# Altium footprint library 封装库.PCBLIB: 282 footprints (part 17 of 18)
Each footprint in its own frame and in the unit in brackets; x right, y up, seen from the top. Pads: shape width x height; smd on the part's side, far side on the other; paste and mask are expansions set on the pad; w line width, h text height; cw(c..) or ccw(c..) is an arc to the next point about the centre after c.
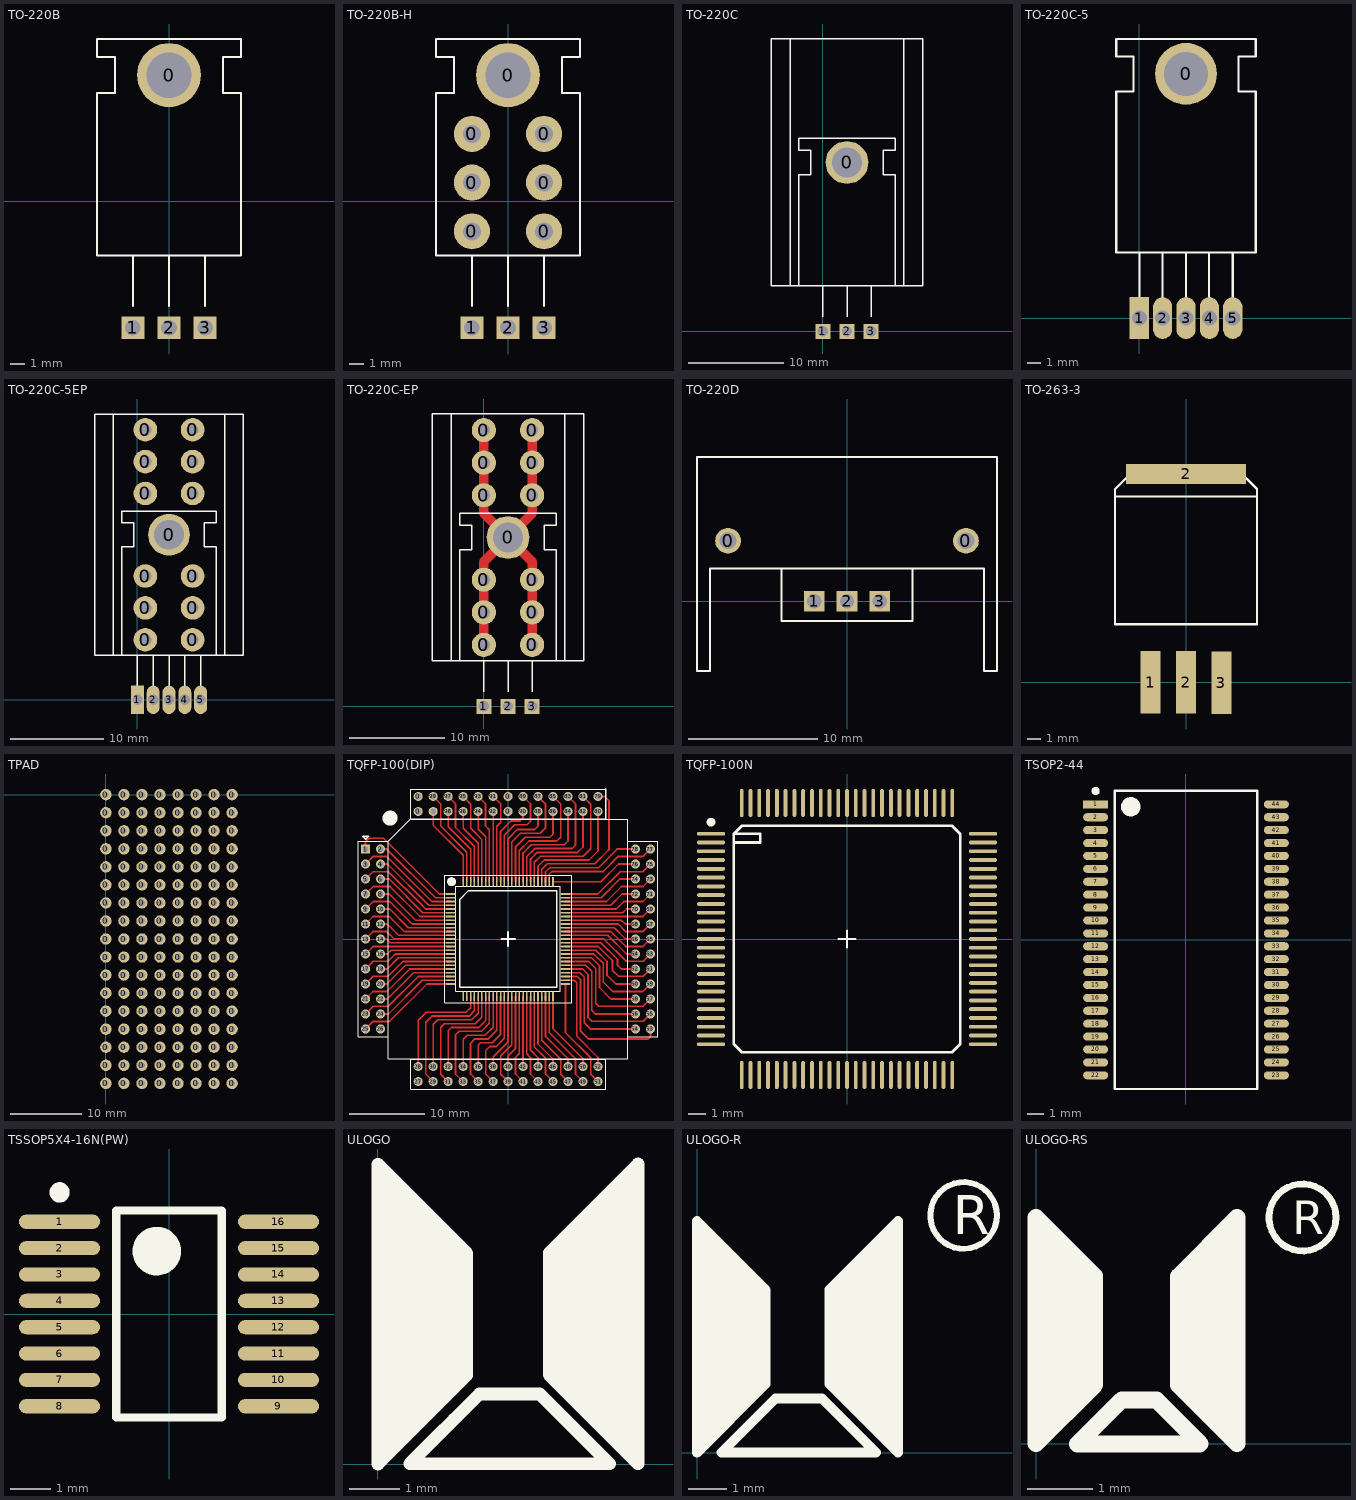
[diagram p16: the footprints below, top view; thin cyan lines are the x and y axes]

## TO-220B [mm]
pads (4):
  round 4.5 hole 3.2: 0(0,8.89)
  rect 1.6x1.6 hole 1.1: 1(-2.54,-8.89) 2(0,-8.89) 3(2.54,-8.89)
TopOverlay:
  lines w0.152: -2.54,-7.366 -2.54,-3.81 ; 0,-7.366 0,-3.81 ; 2.54,-7.366 2.54,-3.81 ; -5.08,-3.81 5.08,-3.81 5.08,7.62 3.81,7.62 3.81,10.16 5.08,10.16 5.08,11.43 -5.08,11.43 -5.08,10.16 -3.81,10.16 -3.81,7.62 -5.08,7.62 -5.08,-3.81

## TO-220B-H [mm]
pads (10):
  round 2.54 hole 1.27: 0(-2.54,-2.108) 0(-2.54,1.321) 0(-2.54,4.75) 0(2.54,-2.108) 0(2.54,1.321) 0(2.54,4.75)
  round 4.5 hole 3.2: 0(0,8.89)
  rect 1.6x1.6 hole 1.1: 1(-2.54,-8.89) 2(0,-8.89) 3(2.54,-8.89)
TopOverlay:
  lines w0.152: -5.08,-3.805 5.08,-3.805 ; -2.54,-7.366 -2.54,-3.81 ; 0,-7.366 0,-3.81 ; 2.54,-7.366 2.54,-3.81 ; -5.08,-3.81 -5.08,7.62 -3.81,7.62 -3.81,10.16 -5.08,10.16 -5.08,11.43 5.08,11.43 5.08,10.16 3.81,10.16 3.81,7.62 5.08,7.62 5.08,-3.81 -5.08,-3.81
  lines w0.254: -0.305,8.89 0,8.89

## TO-220C [mm] "Heat sink"
pads (4):
  round 4.5 hole 3.2: 0(2.54,17.78)
  rect 1.6x1.6 hole 1.1: 1(0,0) 2(2.54,0) 3(5.08,0)
TopOverlay:
  lines w0.152: -3.46,30.78 -3.46,4.78 ; 0,1.524 0,4.78 ; 2.54,1.524 2.54,4.78 ; 5.08,1.524 5.08,4.78 ; 8.54,30.78 8.54,4.78 ; -3.46,4.78 -5.46,4.78 -5.46,30.78 2.54,30.78 10.54,30.78 10.54,4.78 8.54,4.78 ; -3.46,4.78 -2.54,4.78 ; -2.54,4.78 -2.54,16.51 -1.27,16.51 -1.27,19.05 -2.54,19.05 -2.54,20.32 7.62,20.32 7.62,19.05 6.35,19.05 6.35,16.51 7.62,16.51 7.62,4.78 ; -2.54,4.78 7.62,4.78 ; 7.62,4.78 8.54,4.78

## TO-220C-5 [mm] "ADJ,Heat sink"
pads (6):
  round 4.5 hole 3.2: 0(3.4,17.78)
  rect 1.397x3.048 hole 1.1: 1(0,0)
  oval 1.397x3.048 hole 1.1: 2(1.7,0) 3(3.4,0) 4(5.1,0) 5(6.804,0)
TopOverlay:
  lines w0.152: 0,1.524 0,4.78 ; 1.702,1.524 1.702,4.78 ; 3.4,1.524 3.4,4.78 ; 5.08,1.524 5.08,4.78 ; 6.807,1.524 6.807,4.78 ; -1.68,4.78 8.48,4.78 8.48,16.51 7.21,16.51 7.21,19.05 8.48,19.05 8.48,20.32 -1.68,20.32 -1.68,19.05 -0.41,19.05 -0.41,16.51 -1.68,16.51 -1.68,4.78

## TO-220C-5EP [mm] "ADJ,Heat sink"
pads (18):
  round 2.54 hole 1.27: 0(0.86,6.477) 0(0.86,9.906) 0(0.86,13.335) 0(0.86,22.225) 0(0.86,25.654) 0(0.86,29.083) 0(5.94,6.477) 0(5.94,9.906) 0(5.94,13.335) 0(5.94,22.225) 0(5.94,25.654) 0(5.94,29.083)
  round 4.5 hole 3.2: 0(3.4,17.78)
  rect 1.397x3.048 hole 1.1: 1(0,0)
  oval 1.397x3.048 hole 1.1: 2(1.7,0) 3(3.4,0) 4(5.1,0) 5(6.804,0)
TopOverlay:
  lines w0.152: -2.6,30.78 -2.6,4.78 ; 0,1.524 0,4.78 ; 1.702,1.524 1.702,4.78 ; 3.4,1.524 3.4,4.78 ; 5.08,1.524 5.08,4.78 ; 6.807,1.524 6.807,4.78 ; 9.4,30.78 9.4,4.78 ; -2.6,4.78 -1.68,4.78 ; -2.6,4.78 -4.6,4.78 -4.6,30.78 3.4,30.78 11.4,30.78 11.4,4.78 9.4,4.78 ; -1.68,4.78 8.48,4.78 ; -1.68,4.78 -1.68,16.51 -0.41,16.51 ; -0.41,16.51 -0.41,19.05 ; -0.41,16.51 -0.41,19.05 ; -0.41,19.05 -1.68,19.05 -1.68,20.32 8.48,20.32 8.48,19.05 7.21,19.05 ; 7.21,16.51 7.21,19.05 ; 7.21,16.51 7.21,19.05 ; 7.21,16.51 8.48,16.51 8.48,4.78 ; 8.48,4.78 9.4,4.78
  lines w0.254: 3.4,15.875 3.4,17.78

## TO-220C-EP [mm] "Heat sink"
pads (16):
  round 2.54 hole 1.27: 0(0,6.477) 0(0,9.906) 0(0,13.335) 0(0,22.225) 0(0,25.654) 0(0,29.083) 0(5.08,6.477) 0(5.08,9.906) 0(5.08,13.335) 0(5.08,22.225) 0(5.08,25.654) 0(5.08,29.083)
  round 4.5 hole 3.2: 0(2.54,17.78)
  rect 1.6x1.6 hole 1.1: 1(0,0) 2(2.54,0) 3(5.08,0)
TopLayer:
  lines w1.016: 0,6.477 0,13.335 0,15.24 2.54,17.78 ; 0,29.083 0,22.225 0,20.32 2.54,17.78 ; 5.08,6.477 5.08,13.335 5.08,15.24 2.54,17.78 ; 5.08,29.083 5.08,22.225 5.08,20.32 2.54,17.78
TopOverlay:
  lines w0.152: -3.46,30.78 -3.46,4.78 ; 0,1.524 0,4.78 ; 2.54,1.524 2.54,4.78 ; 5.08,1.524 5.08,4.78 ; 8.54,30.78 8.54,4.78 ; -3.46,4.78 -2.54,4.78 ; -3.46,4.78 -5.46,4.78 -5.46,30.78 2.54,30.78 10.54,30.78 10.54,4.78 8.54,4.78 ; -2.54,4.78 7.62,4.78 ; -2.54,4.78 -2.54,16.51 -1.27,16.51 -1.27,19.05 -2.54,19.05 -2.54,20.32 7.62,20.32 7.62,19.05 6.35,19.05 6.35,16.51 7.62,16.51 7.62,4.78 ; 7.62,4.78 8.54,4.78
  lines w0.254: 2.54,15.875 2.54,17.78

## TO-220D [mm]
pads (5):
  round 2 hole 1.3: 0(-9.246,4.699) 0(9.246,4.699)
  rect 1.6x1.6 hole 1.1: 1(-2.54,0) 2(0,0) 3(2.54,0)
TopOverlay:
  lines w0.152: -11.659,-5.055 -11.659,0 ; -11.659,-4.699 -11.659,-5.41 -10.643,-5.41 -10.643,-3.302 -10.643,-1.524 ; -11.659,-0.635 -11.659,11.201 0.025,11.201 ; -10.643,-2.007 -10.643,2.54 -5.08,2.54 ; -5.08,0 -5.08,0.762 -5.08,2.54 ; -5.08,0.254 -5.08,-1.524 -4.572,-1.524 4.572,-1.524 5.08,-1.524 5.08,2.54 ; -2.54,-0.305 -2.54,0.203 ; -0.457,11.201 11.659,11.201 11.659,-1.422 ; 10.643,-3.073 10.643,-1.524 ; 10.643,-2.667 10.643,-3.429 10.643,-5.41 11.659,-5.41 11.659,-3.962 ; 10.643,-1.956 10.643,2.54 5.08,2.54 ; 11.659,-4.547 11.659,0.279 ; -5.08,2.54 5.08,2.54

## TO-263-3 [mm]
pads (4):
  rect 1.42x4.5 smd: 1(-2.54,0.013) 2(0,0.013) 3(2.54,-0.013)
  rect 8.59x1.42 smd: 2(0,14.961)
TopOverlay:
  lines w0.152: -4.287,14.668 -3.271,14.668 ; -2.077,13.329 -5.094,13.329 2.825,13.329 ; -2.001,13.329 5.094,13.329 5.094,13.875 4.3,14.668 4.298,14.668 3.765,14.668 ; 3.758,14.668 -4.293,14.668 -5.1,13.862 -5.1,13.328 -5.1,4.178 5.085,4.178 ; 4.806,4.178 5.085,4.178 ; 5.094,13.652 5.094,4.653 5.094,4.187 5.085,4.178

## TPAD [mm]
pads (136):
  round 1.6 hole 0.8: 0(0,-40.64) 0(0,-38.1) 0(0,-35.56) 0(0,-33.02) 0(0,-30.48) 0(0,-27.94) 0(0,-25.4) 0(0,-22.86) 0(0,-20.32) 0(0,-17.78) 0(0,-15.24) 0(0,-12.7) 0(0,-10.16) 0(0,-7.62) 0(0,-5.08) 0(0,-2.54) 0(0,0) 0(2.54,-40.64) 0(2.54,-38.1) 0(2.54,-35.56) 0(2.54,-33.02) 0(2.54,-30.48) 0(2.54,-27.94) 0(2.54,-25.4) 0(2.54,-22.86) 0(2.54,-20.32) 0(2.54,-17.78) 0(2.54,-15.24) 0(2.54,-12.7) 0(2.54,-10.16) 0(2.54,-7.62) 0(2.54,-5.08) 0(2.54,-2.54) 0(2.54,0) 0(5.08,-40.64) 0(5.08,-38.1) 0(5.08,-35.56) 0(5.08,-33.02) 0(5.08,-30.48) 0(5.08,-27.94) 0(5.08,-25.4) 0(5.08,-22.86) 0(5.08,-20.32) 0(5.08,-17.78) 0(5.08,-15.24) 0(5.08,-12.7) 0(5.08,-10.16) 0(5.08,-7.62) 0(5.08,-5.08) 0(5.08,-2.54) 0(5.08,0) 0(7.62,-40.64) 0(7.62,-38.1) 0(7.62,-35.56) 0(7.62,-33.02) 0(7.62,-30.48) 0(7.62,-27.94) 0(7.62,-25.4) 0(7.62,-22.86) 0(7.62,-20.32) 0(7.62,-17.78) 0(7.62,-15.24) 0(7.62,-12.7) 0(7.62,-10.16) 0(7.62,-7.62) 0(7.62,-5.08) 0(7.62,-2.54) 0(7.62,0) 0(10.16,-40.64) 0(10.16,-38.1) 0(10.16,-35.56) 0(10.16,-33.02) 0(10.16,-30.48) 0(10.16,-27.94) 0(10.16,-25.4) 0(10.16,-22.86) 0(10.16,-20.32) 0(10.16,-17.78) 0(10.16,-15.24) 0(10.16,-12.7) 0(10.16,-10.16) 0(10.16,-7.62) 0(10.16,-5.08) 0(10.16,-2.54) 0(10.16,0) 0(12.7,-40.64) 0(12.7,-38.1) 0(12.7,-35.56) 0(12.7,-33.02) 0(12.7,-30.48) 0(12.7,-27.94) 0(12.7,-25.4) 0(12.7,-22.86) 0(12.7,-20.32) 0(12.7,-17.78) 0(12.7,-15.24) 0(12.7,-12.7) 0(12.7,-10.16) 0(12.7,-7.62) 0(12.7,-5.08) 0(12.7,-2.54) 0(12.7,0) 0(15.24,-40.64) 0(15.24,-38.1) 0(15.24,-35.56) 0(15.24,-33.02) 0(15.24,-30.48) 0(15.24,-27.94) 0(15.24,-25.4) 0(15.24,-22.86) 0(15.24,-20.32) 0(15.24,-17.78) 0(15.24,-15.24) 0(15.24,-12.7) 0(15.24,-10.16) 0(15.24,-7.62) 0(15.24,-5.08) 0(15.24,-2.54) 0(15.24,0) 0(17.78,-40.64) 0(17.78,-38.1) 0(17.78,-35.56) 0(17.78,-33.02) 0(17.78,-30.48) 0(17.78,-27.94) 0(17.78,-25.4) 0(17.78,-22.86) 0(17.78,-20.32) 0(17.78,-17.78) 0(17.78,-15.24) 0(17.78,-12.7) 0(17.78,-10.16) 0(17.78,-7.62) 0(17.78,-5.08) 0(17.78,-2.54) 0(17.78,0)

## TQFP-100(DIP) [mm]
pads (204):
  round 1.2 hole 0.75: 0(-11.987,17.018) 0(-11.987,19.018) 0(0.013,17.018) 0(0.013,19.018) 2(-17.005,12) 3(-19.005,10) 4(-17.005,10) 5(-19.005,8) 6(-17.005,8) 7(-19.005,6) 8(-17.005,6) 9(-19.005,4) 10(-17.005,4) 11(-19.005,2) 12(-17.005,2) 13(-19.005,0) 14(-17.005,0) 15(-19.005,-2) 16(-17.005,-2) 17(-19.005,-4) 18(-17.005,-4) 19(-19.005,-6) 20(-17.005,-6) 21(-19.005,-8) 22(-17.005,-8) 23(-19.005,-10) 24(-17.005,-10) 25(-19.005,-12) 26(-17.005,-12) 27(-11.987,-19.018) 28(-11.987,-17.018) 29(-9.987,-19.018) 30(-9.987,-17.018) 31(-7.987,-19.018) 32(-7.987,-17.018) 33(-5.987,-19.018) 34(-5.987,-17.018) 35(-3.987,-19.018) 36(-3.987,-17.018) 37(-1.987,-19.018) 38(-1.987,-17.018) 39(0.013,-19.018) 40(0.013,-17.018) 41(2.013,-19.018) 42(2.013,-17.018) 43(4.013,-19.018) 44(4.013,-17.018) 45(6.013,-19.018) 46(6.013,-17.018) 47(8.013,-19.018) 48(8.013,-17.018) 49(10.013,-19.018) 50(10.013,-17.018) 51(12.013,-19.018) 52(12.013,-17.018) 53(19.005,-12) 54(17.005,-12) 55(19.005,-10) 56(17.005,-10) 57(19.005,-8) 58(17.005,-8) 59(19.005,-6) 60(17.005,-6) 61(19.005,-4) 62(17.005,-4) 63(19.005,-2) 64(17.005,-2) 65(19.005,0) 66(17.005,0) 67(19.005,2) 68(17.005,2) 69(19.005,4) 70(17.005,4) 71(19.005,6) 72(17.005,6) 73(19.005,8) 74(17.005,8) 75(19.005,10) 76(17.005,10) 77(19.005,12) 78(17.005,12) 79(12.013,19.018) 80(12.013,17.018) 81(10.013,19.018) 82(10.013,17.018) 83(8.013,19.018) 84(8.013,17.018) 85(6.013,19.018) 86(6.013,17.018) 87(4.013,19.018) 88(4.013,17.018) 89(2.013,19.018) 90(2.013,17.018) 91(-1.987,19.018) 92(-1.987,17.018) 93(-3.987,19.018) 94(-3.987,17.018) 95(-5.987,19.018) 96(-5.987,17.018) 97(-7.987,19.018) 98(-7.987,17.018) 99(-9.987,19.018) 100(-9.987,17.018)
  rect 1.2x1.2 hole 0.75: 1(-19.005,12)
  rect 1.3x0.22 smd: 1(-7.637,6)
  oval 1.3x0.22 smd: 2(-7.637,5.5) 3(-7.637,5) 4(-7.637,4.5) 5(-7.637,4) 6(-7.637,3.5) 7(-7.637,3) 8(-7.637,2.5) 9(-7.637,2) 10(-7.637,1.5) 11(-7.637,1) 12(-7.637,0.5) 13(-7.637,0) 14(-7.637,-0.5) 15(-7.637,-1) 16(-7.637,-1.5) 17(-7.637,-2) 18(-7.637,-2.5) 19(-7.637,-3) 20(-7.637,-3.5) 21(-7.637,-4) 22(-7.637,-4.5) 23(-7.637,-5) 24(-7.637,-5.5) 25(-7.637,-6) 51(7.663,-6) 52(7.663,-5.5) 53(7.663,-5) 54(7.663,-4.5) 55(7.663,-4) 56(7.663,-3.5) 57(7.663,-3) 58(7.663,-2.5) 59(7.663,-2) 60(7.663,-1.5) 61(7.663,-1) 62(7.663,-0.5) 63(7.663,0) 64(7.663,0.5) 65(7.663,1) 66(7.663,1.5) 67(7.663,2) 68(7.663,2.5) 69(7.663,3) 70(7.663,3.5) 71(7.663,4) 72(7.663,4.5) 73(7.663,5) 74(7.663,5.5) 75(7.663,6)
  oval 0.22x1.3 smd: 26(-5.987,-7.65) 27(-5.487,-7.65) 28(-4.987,-7.65) 29(-4.487,-7.65) 30(-3.987,-7.65) 31(-3.487,-7.65) 32(-2.987,-7.65) 33(-2.487,-7.65) 34(-1.987,-7.65) 35(-1.487,-7.65) 36(-0.987,-7.65) 37(-0.487,-7.65) 38(0.013,-7.65) 39(0.513,-7.65) 40(1.013,-7.65) 41(1.513,-7.65) 42(2.013,-7.65) 43(2.513,-7.65) 44(3.013,-7.65) 45(3.513,-7.65) 46(4.013,-7.65) 47(4.513,-7.65) 48(5.013,-7.65) 49(5.513,-7.65) 50(6.013,-7.65) 76(6.013,7.65) 77(5.513,7.65) 78(5.013,7.65) 79(4.513,7.65) 80(4.013,7.65) 81(3.513,7.65) 82(3.013,7.65) 83(2.513,7.65) 84(2.013,7.65) 85(1.513,7.65) 86(1.013,7.65) 87(0.513,7.65) 88(0.013,7.65) 89(-0.487,7.65) 90(-0.987,7.65) 91(-1.487,7.65) 92(-1.987,7.65) 93(-2.487,7.65) 94(-2.987,7.65) 95(-3.487,7.65) 96(-3.987,7.65) 97(-4.487,7.65) 98(-4.987,7.65) 99(-5.487,7.65) 100(-5.987,7.65)
TopLayer:
  lines w0.229: -19.005,-12 -18.003,-10.998 -16.319,-10.998 ; -19.005,-10 -17.997,-8.992 -16.345,-8.992 ; -19.005,-8 -18.016,-7.01 -16.269,-7.01 -16.142,-7.01 -13.131,-4 -7.637,-4 ; -19.005,-6 -17.984,-4.978 -16.015,-4.978 -14.036,-3 ; -19.005,-3.944 -19.005,-4 -17.977,-2.972 ; -19.005,-2 -18.005,-1 ; -19.005,0 -18.015,0.991 -16.167,0.991 -15.176,0 ; -19.005,2 -18.008,2.997 -15.837,2.997 -13.84,1 ; -19.005,4 -18.002,5.004 -15.786,5.004 -12.782,2 ; -19.005,6 -17.995,7.01 -15.761,7.01 -11.75,3 ; -19.005,8 -18.014,8.992 -15.964,8.992 -11.798,4.826 -10.972,4 ; -19.005,10 -17.982,11.024 -16.218,11.024 -10.194,5 ; -19.005,12 -19.005,12.986 -18.529,13.462 ; -17.882,13.462 -18.529,13.462 ; -17.005,-12 -16.559,-12 ; -17.005,-4 -16.129,-4 -14.628,-2.5 -14.16,-2.5 ; -17.005,-2 -16.084,-2 -15.584,-1.5 ; -17.005,0 -16.243,0 -15.743,-0.5 ; -17.005,2 -16.11,2 -14.61,0.5 ; -17.005,4 -15.798,4 -13.298,1.5 ; -17.005,6 -15.843,6 -12.342,2.5 ; -17.005,8 -15.861,8 -11.361,3.5 ; -17.005,10 -16.083,10 -10.583,4.5 ; -16.828,-8.992 -15.964,-8.992 -11.972,-5 ; -16.751,-10.998 -15.811,-10.998 -10.813,-6 -7.637,-6 ; -16.369,-8 -17.005,-8 ; -16.319,-8 -17.005,-8 ; -16.147,-6 -17.005,-6 -16.173,-6 -13.673,-3.5 ; -15.515,-0.5 -7.637,-0.5 -15.743,-0.5 ; -15.507,11.328 -16.178,12 ; -14.414,-0.5 -15.743,-0.5 ; -14.033,-3.861 -13.673,-3.5 ; -13.52,-3.5 -7.637,-3.5 -13.673,-3.5 ; -12.765,1.5 -7.637,1.5 -13.298,1.5 ; -12.738,-3.5 -13.673,-3.5 ; -12.154,1.5 -13.298,1.5 ; -11.987,-15.088 -11.987,-17.018 -11.987,-10.857 -10.909,-9.779 -5.601,-9.779 -4.987,-9.166 -4.987,-7.65 ; -11.695,-5.739 -11.456,-5.5 ; -11.29,-5 -11.972,-5 ; -10.986,-18.02 -9.987,-19.018 ; -10.986,-17.983 -10.986,-11.405 ; -10.986,-12.7 -10.986,-11.125 -10.147,-10.287 ; -10.929,3.5 -7.637,3.5 -11.361,3.5 ; -10.553,-10.693 -10.147,-10.287 ; -10.528,-5.5 -11.456,-5.5 ; -10.147,3.5 -11.361,3.5 ; -9.987,-17.018 -9.987,-11.397 -9.385,-10.795 -4.864,-10.795 -3.987,-9.918 -3.987,-7.65 ; -9.987,17.018 -9.987,15.156 -5.987,11.156 -5.987,7.65 -5.987,8.255 ; -9.987,19.018 -8.979,18.01 -8.979,15.088 -5.487,11.596 -5.487,7.65 -5.487,7.95 ; -9.97,-10.287 -10.147,-10.287 ; -8.395,2.5 -7.637,2.5 ; -7.987,-19.018 -8.02,-19.018 -8.979,-18.059 -8.979,-12.649 -8.979,-11.786 -8.496,-11.303 -4.356,-11.303 -3.487,-10.434 -3.487,-7.65 ; -7.987,-17.018 -7.987,-12.216 -7.582,-11.811 -3.924,-11.811 -2.987,-10.874 -2.987,-7.65 ; -7.987,17.018 -7.987,14.985 -4.987,11.985 -4.987,7.65 ; -7.637,-5 -11.972,-5 ; -6.998,-13.843 -6.998,-12.802 -6.515,-12.319 -5.804,-12.319 ; -6.998,-13.284 -6.998,-18.008 -5.987,-19.018 ; -6.159,-12.319 -3.543,-12.319 -2.487,-11.263 -2.487,-7.65 ; -5.987,-17.018 -5.987,-13.366 -5.448,-12.827 -3.061,-12.827 -1.987,-11.754 -1.987,-7.347 ; -5.987,17.018 -5.987,14.763 -3.987,12.763 -3.987,7.65 ; -5.487,-8.026 -5.487,-7.65 ; -4.487,-7.65 -4.487,-9.58 -5.194,-10.287 -10.147,-10.287 ; -4.487,7.65 -4.487,12.374 -6.998,14.884 -6.998,18.028 ; -3.987,-19.018 -4.991,-18.014 -4.991,-13.894 -4.432,-13.335 -2.654,-13.335 -1.487,-12.168 -1.487,-7.65 ; -3.987,-17.018 -3.987,-14.16 -3.67,-13.843 -2.121,-13.843 -0.987,-12.709 -0.987,-7.65 ; -3.987,17.018 -3.987,14.668 -2.987,13.668 -2.987,10.033 ; -3.487,7.65 -3.487,13.279 -4.966,14.757 -4.966,17.996 ; -2.987,7.65 -2.987,10.366 ; -2.984,-15.773 -2.984,-14.884 -2.451,-14.351 ; -2.984,-15.113 -2.984,-18.021 -1.987,-19.018 ; -2.487,7.65 -2.487,11.06 ; -2.487,10.566 -2.487,14.565 -3.01,15.088 -3.01,18.041 ; -2.095,-14.351 -2.451,-14.351 ; -1.987,-17.018 -1.987,-15.691 0.013,-13.691 0.013,-7.65 ; -1.987,7.65 -1.987,11.703 ; -1.987,15.977 -1.987,17.018 -1.987,10.668 ; -1.987,19.018 -0.978,18.009 -0.978,15.57 -1.487,15.061 -1.487,7.65 ; -0.987,7.65 -0.987,14.392 0.368,15.748 1.181,15.748 ; -0.487,-7.65 -0.487,-13.251 -1.587,-14.351 -2.451,-14.351 ; -0.487,7.65 -0.487,13.47 ; -0.487,12.446 -0.487,13.851 0.902,15.24 1.283,15.24 2.527,15.24 3.01,15.723 3.01,18.021 2.013,19.018 ; 0.013,-19.018 -0.978,-18.027 -0.978,-15.596 0.513,-14.105 0.513,-7.65 ; 0.013,-17.018 0.013,-15.596 1.013,-14.596 1.013,-7.65 ; 0.013,7.65 0.013,13.36 1.257,14.605 3.569,14.605 4.013,15.049 ; 0.513,7.65 0.513,12.565 ; 0.513,10.668 0.513,12.946 1.664,14.097 4.305,14.097 4.991,14.783 4.991,18.04 4.013,19.018 ; 0.775,15.748 1.384,15.748 ; 0.902,15.748 1.587,15.748 2.013,16.173 2.013,17.018 ; 1.003,-17.729 1.003,-15.8 1.513,-15.291 1.513,-7.65 ; 1.003,-16.027 1.003,-18.009 2.013,-19.018 ; 1.013,7.65 1.013,12.303 2.299,13.589 5.601,13.589 6.013,14.001 6.013,17.018 ; 1.513,7.65 1.513,11.787 2.807,13.081 6.515,13.081 7.023,13.589 7.023,18.008 6.013,19.018 ; 2.013,-17.018 2.013,-7.65 ; 2.013,7.65 2.013,11.474 3.111,12.573 7.506,12.573 8.013,13.08 8.013,17.018 ; 2.513,-7.65 2.513,-15.327 3.01,-15.824 3.01,-18.015 4.013,-19.018 ; 2.513,7.65 2.513,11.009 3.569,12.065 8.547,12.065 9.004,12.522 9.004,18.026 8.013,19.018 ; 3.013,-7.65 3.013,-14.836 4.013,-15.836 4.013,-17.018 ; 3.013,7.65 3.013,10.671 3.899,11.557 9.284,11.557 10.013,12.286 10.013,17.018 ; 3.513,-7.65 3.513,-14.422 5.016,-15.926 5.016,-18.022 6.013,-19.018 ; 3.513,7.65 3.513,10.231 4.331,11.049 10.02,11.049 11.036,12.065 11.036,17.994 10.013,19.018 ; 4.013,-7.65 4.013,-14.008 6.013,-16.008 6.013,-17.018 6.013,-16.287 ; 4.013,7.65 4.013,9.715 4.839,10.541 10.808,10.541 12.013,11.746 12.013,17.018 ; 4.013,15.392 4.013,15.049 ; 4.013,15.545 4.013,15.049 ; 4.013,17.018 4.013,15.049 ; 4.513,-7.65 4.513,-13.517 7.023,-16.027 7.023,-18.028 8.013,-19.018 ; 4.513,7.65 4.513,9.326 ; 4.513,9.017 4.513,9.326 ; 5.013,-7.65 5.013,-13.001 8.013,-16.001 8.013,-17.018 ; 5.013,7.65 5.013,8.937 5.601,9.525 12.078,9.525 14.553,12 17.005,12 ; 5.513,-7.65 5.513,-12.485 9.004,-15.977 9.004,-18.01 10.013,-19.018 ; 6.013,-7.65 6.013,-11.969 10.013,-15.969 10.013,-17.018 10.013,-16.096 ; 6.013,7.65 12.387,7.65 14.737,10 17.005,10 ; 7.455,4.496 13.703,4.496 15.208,6 ; 7.663,-11.892 7.663,-6 ; 7.663,-10.058 7.663,-12.476 11.036,-15.85 11.036,-18.042 12.013,-19.018 ; 7.663,-5.5 8.84,-5.5 9.157,-5.817 9.157,-12.319 ; 7.663,-5 9.254,-5 ; 7.663,-4.5 9.339,-4.5 ; 7.663,-4 9.601,-4 9.956,-4 10.681,-4.724 10.681,-5.182 ; 7.663,-3.5 10.371,-3.5 11.189,-4.318 11.189,-9.525 11.664,-10 17.005,-10 ; 7.663,-3 10.76,-3 11.697,-3.937 11.697,-8.585 12.103,-8.992 18.014,-8.992 19.005,-8 ; 7.663,-2.5 11.149,-2.5 ; 7.663,-2 11.284,-2 ; 7.663,-1.5 11.723,-1.5 13.221,-2.997 13.221,-4.826 ; 7.663,-1 11.884,-1 ; 7.663,0 12.484,0 ; 7.663,0.5 12.848,0.5 13.305,0.5 15.805,-2 17.005,-2 ; 7.663,1 13.237,1 ; 7.663,1.5 13.499,1.5 14.185,1.5 15.684,0 ; 7.663,2.5 14.404,2.5 ; 7.663,3 18.005,3 19.005,4 ; 7.663,3.5 15.324,3.5 ; 7.663,4 14.427,4 15.43,5.004 18.009,5.004 19.005,6 ; 7.663,5 13.141,5 15.151,7.01 18.016,7.01 19.005,8 ; 7.663,5.5 12.421,5.5 14.922,8 17.005,8 ; 7.663,6 11.982,6 14.973,8.992 17.997,8.992 19.005,10 ; 8.877,-4 9.829,-4 ; 9.055,-4.5 9.593,-4.5 10.173,-5.08 10.173,-6.147 ; 9.157,-11.227 9.157,-12.954 12.013,-15.81 ; 9.665,-11.659 9.665,-5.41 ; 9.665,-11.379 9.665,-12.268 10.731,-13.335 11.62,-13.335 ; 10.173,-5.918 10.173,-11.176 10.997,-12 17.005,-12 15.481,-12 ; 10.325,-2.5 11.149,-2.5 ; 10.477,-0.5 7.663,-0.5 12.095,-0.5 ; 10.681,-5.385 10.681,-4.851 ; 10.681,-5.08 10.681,-10.465 11.189,-10.973 18.033,-10.973 19.005,-10 ; 11.036,-2 11.461,-2 12.713,-3.251 12.713,-3.886 ; 11.062,-13.335 18.707,-13.335 ; 11.239,-1 12.062,-1 ; 11.697,-1 12.062,-1 ; 11.773,-0.5 12.4,-0.5 14.618,-2.718 14.618,-3.492 15.126,-4 ; 12.013,19.018 12.922,19.018 13.475,18.466 13.475,11.938 13.348,11.811 11.57,10.033 5.22,10.033 4.513,9.326 ; 12.027,0 12.789,0 15.761,-2.972 16.853,-2.972 ; 12.713,-3.658 12.713,-5.74 13.983,-7.01 14.338,-7.01 17.995,-7.01 ; 12.738,1 13.694,1 15.684,-0.991 ; 13.221,-3.556 13.221,-4.857 14.364,-6 ; 13.627,2.5 15.134,2.5 15.634,2 ; 13.652,2 14.726,2 ; 13.983,-8 13.729,-8 ; 14.015,2 7.663,2 14.726,2 ; 14.262,3.5 15.324,3.5 ; 14.465,-6 14.364,-6 ; 15.278,-4.978 14.745,-4.978 ; 15.405,-4 15.126,-4 ; 15.684,-4.978 14.745,-4.978 ; 15.913,2 15.634,2 ; 16.066,-0.991 15.684,-0.991 ; 16.192,-2.972 18.034,-2.972 ; 16.497,0 15.684,0 ; 16.904,0.991 15.735,0.991 ; 17.005,-8 13.729,-8 ; 17.005,-6 14.364,-6 ; 17.005,-4 15.126,-4 ; 17.005,2 15.634,2 ; 17.005,4 15.824,4 ; 18.308,-6.697 17.995,-7.01 ; 19.005,-6 17.995,-7.01 ; 19.005,2 17.996,0.991 15.735,0.991 ; 19.005,12 18.029,11.024 14.719,11.024 12.713,9.017 5.855,9.017 ; -18.529,13.462 -16.624,13.462 -9.162,6 ; -18.005,-1 -7.637,-1 -18.005,-1 ; -17.977,-2.972 -16.015,-2.972 ; -17.977,-2.972 -16.015,-2.972 ; -17.005,-10 -16.337,-10 -17.005,-10 ; -17.005,-10 -15.956,-10 ; -17.005,-10 -15.956,-10 ; -17.005,-8 -16.115,-8 ; -17.005,-8 -16.115,-8 ; -16.178,12 -17.005,12 -16.178,12 ; -16.178,12 -9.678,5.5 ; -16.115,-8 -12.615,-4.5 ; -16.115,-8 -12.615,-4.5 ; -16.015,-2.972 -15.043,-2 ; -16.015,-2.972 -15.043,-2 ; -15.956,-10 -11.456,-5.5 ; -15.584,-1.5 -7.637,-1.5 -15.584,-1.5 ; -15.176,0 -7.637,0 -15.176,0 ; -15.043,-2 -7.637,-2 -15.043,-2 ; -14.61,0.5 -7.637,0.5 -14.61,0.5 ; -14.036,-3 -7.637,-3 -14.036,-3 ; -13.84,1 -7.637,1 -13.84,1 ; -12.782,2 -7.637,2 -12.782,2 ; -12.615,-4.5 -7.637,-4.5 -12.615,-4.5 ; -12.342,2.5 -7.637,2.5 ; -12.342,2.5 -7.637,2.5 ; -11.75,3 -7.637,3 -11.75,3 ; -11.456,-5.5 -7.637,-5.5 -11.456,-5.5 ; -10.972,4 -7.637,4 -10.972,4 ; -10.583,4.5 -7.637,4.5 -10.583,4.5 ; -10.194,5 -7.637,5 -10.194,5 ; -9.678,5.5 -7.637,5.5 -9.678,5.5 ; -9.162,6 -7.637,6 -9.162,6 ; -6.998,18.028 -7.987,19.018 -6.998,18.028 ; -4.966,17.996 -5.987,19.018 -4.966,17.996 ; -3.01,18.041 -3.987,19.018 -3.01,18.041 ; -1.987,10.668 -1.987,10.668 ; 2.013,-7.65 2.013,-7.65 ; 5.513,8.675 5.855,9.017 ; 5.513,8.675 5.513,7.65 5.513,8.675 ; 5.513,8.675 5.855,9.017 ; 9.254,-5 9.665,-5.41 ; 9.254,-5 9.665,-5.41 ; 11.149,-2.5 12.205,-3.556 12.205,-3.962 12.205,-6.476 13.729,-8 ; 12.013,-15.81 12.013,-17.018 12.013,-15.81 ; 12.062,-1 13.932,-2.87 13.932,-4.166 ; 13.932,-4.166 14.745,-4.978 ; 13.932,-4.166 14.745,-4.978 ; 14.726,2 15.735,0.991 ; 14.726,2 15.735,0.991 ; 14.745,-4.978 18.027,-4.978 ; 15.208,6 17.005,6 15.208,6 ; 15.324,3.5 15.824,4 ; 15.324,3.5 15.824,4 ; 15.684,-0.991 18.015,-0.991 ; 15.684,0 17.005,0 15.684,0 ; 18.015,-0.991 19.005,0 18.015,-0.991 ; 18.027,-4.978 19.005,-4 18.027,-4.978 ; 18.034,-2.972 19.005,-2 18.034,-2.972 ; 18.707,-13.335 19.005,-13.037 ; 18.707,-13.335 19.005,-13.037 ; 19.005,-13.037 19.005,-12 19.005,-13.037 ; -14.425,-2.5 -7.637,-2.5 -14.425,-2.5
TopOverlay:
  circle w1: c-15.74,16.129 r0.5
  circle w0.6: c-7.526,7.645 r0.3
  lines w0.102: -8.462,-8.475 8.513,-8.475 8.513,8.5 -8.462,8.5 -8.462,-8.475 ; -6.962,-7 6.988,-7 6.988,7.025 -6.962,7.025 -6.962,-7
  lines w0.152: -15.989,-16 -15.989,13.016 ; -15.987,-16 16.013,-16 16.013,16 ; -13.022,15.999 -16.005,13.016 ; -13.006,16 16.011,16 ; 13.029,20.018 -13.006,20.018 -13.006,16.018 ; -16.005,13.016 -20.005,13.016 -20.005,-13.019 -16.005,-13.019 -16.005,13.016 ; -13.006,16.018 13.029,16.018 -13.006,16.018 ; -13.003,-20.018 13.032,-20.018 13.032,-16.018 -13.003,-16.018 -13.003,-20.018 ; 16.005,-13.016 20.005,-13.016 20.005,13.019 16.005,13.019 16.005,-13.016
  lines w0.203: -6.452,-6.465 -6.452,5.28 -5.267,6.465 6.478,6.465 6.478,-6.465 -6.452,-6.465
  lines w0.229: -0.914,0 0.013,0 ; 0.013,-0.927 0.013,0 ; 0.013,0.927 0.013,0 ; 0.94,0 0.013,0 ; 13.029,16.018 13.029,20.018 ; -19.386,13.702 -19.005,13.321 -18.624,13.702 -19.386,13.702

## TQFP-100N [mm] "TQFP,100-Leads, Body 16.0x16.0mm (max), Pitch 0.50mm, IPC Medium Density"
height 1.2
pads (100):
  oval 1.6x0.22 smd: 1(-7.75,6) 2(-7.75,5.5) 3(-7.75,5) 4(-7.75,4.5) 5(-7.75,4) 6(-7.75,3.5) 7(-7.75,3) 8(-7.75,2.5) 9(-7.75,2) 10(-7.75,1.5) 11(-7.75,1) 12(-7.75,0.5) 13(-7.75,0) 14(-7.75,-0.5) 15(-7.75,-1) 16(-7.75,-1.5) 17(-7.75,-2) 18(-7.75,-2.5) 19(-7.75,-3) 20(-7.75,-3.5) 21(-7.75,-4) 22(-7.75,-4.5) 23(-7.75,-5) 24(-7.75,-5.5) 25(-7.75,-6) 51(7.75,-6) 52(7.75,-5.5) 53(7.75,-5) 54(7.75,-4.5) 55(7.75,-4) 56(7.75,-3.5) 57(7.75,-3) 58(7.75,-2.5) 59(7.75,-2) 60(7.75,-1.5) 61(7.75,-1) 62(7.75,-0.5) 63(7.75,0) 64(7.75,0.5) 65(7.75,1) 66(7.75,1.5) 67(7.75,2) 68(7.75,2.5) 69(7.75,3) 70(7.75,3.5) 71(7.75,4) 72(7.75,4.5) 73(7.75,5) 74(7.75,5.5) 75(7.75,6)
  oval 0.22x1.6 smd: 26(-6,-7.75) 27(-5.5,-7.75) 28(-5,-7.75) 29(-4.5,-7.75) 30(-4,-7.75) 31(-3.5,-7.75) 32(-3,-7.75) 33(-2.5,-7.75) 34(-2,-7.75) 35(-1.5,-7.75) 36(-1,-7.75) 37(-0.5,-7.75) 38(0,-7.75) 39(0.5,-7.75) 40(1,-7.75) 41(1.5,-7.75) 42(2,-7.75) 43(2.5,-7.75) 44(3,-7.75) 45(3.5,-7.75) 46(4,-7.75) 47(4.5,-7.75) 48(5,-7.75) 49(5.5,-7.75) 50(6,-7.75) 76(6,7.75) 77(5.5,7.75) 78(5,7.75) 79(4.5,7.75) 80(4,7.75) 81(3.5,7.75) 82(3,7.75) 83(2.5,7.75) 84(2,7.75) 85(1.5,7.75) 86(1,7.75) 87(0.5,7.75) 88(0,7.75) 89(-0.5,7.75) 90(-1,7.75) 91(-1.5,7.75) 92(-2,7.75) 93(-2.5,7.75) 94(-3,7.75) 95(-3.5,7.75) 96(-4,7.75) 97(-4.5,7.75) 98(-5,7.75) 99(-5.5,7.75) 100(-6,7.75)
TopOverlay:
  circle w0.25: c-7.75,6.66 r0.125
  lines w0.1: -0.5,0 0.5,0 ; 0,-0.5 0,0.5
  lines w0.152: -6.45,5.5 -4.95,5.5 -4.95,6 -6.45,6 ; -6.45,6 -6,6.45 6,6.45 6.45,6 6.45,-6 6,-6.45 -6,-6.45 -6.45,-6 -6.45,6

## TSOP2-44 [mm] "ISSI,SRAM"
height 1.2
pads (44):
  rect 1.55x0.5 smd: 1(-5.6,8.4)
  oval 1.55x0.5 smd: 2(-5.6,7.6) 3(-5.6,6.8) 4(-5.6,6) 5(-5.6,5.2) 6(-5.6,4.4) 7(-5.6,3.6) 8(-5.6,2.8) 9(-5.6,2) 10(-5.6,1.2) 11(-5.6,0.4) 12(-5.6,-0.4) 13(-5.6,-1.2) 14(-5.6,-2) 15(-5.6,-2.8) 16(-5.6,-3.6) 17(-5.6,-4.4) 18(-5.6,-5.2) 19(-5.6,-6) 20(-5.6,-6.8) 21(-5.6,-7.6) 22(-5.6,-8.4) 23(5.6,-8.4) 24(5.6,-7.6) 25(5.6,-6.8) 26(5.6,-6) 27(5.6,-5.2) 28(5.6,-4.4) 29(5.6,-3.6) 30(5.6,-2.8) 31(5.6,-2) 32(5.6,-1.2) 33(5.6,-0.4) 34(5.6,0.4) 35(5.6,1.2) 36(5.6,2) 37(5.6,2.8) 38(5.6,3.6) 39(5.6,4.4) 40(5.6,5.2) 41(5.6,6) 42(5.6,6.8) 43(5.6,7.6) 44(5.6,8.4)
TopOverlay:
  circle w0.25: c-5.6,9.225 r0.125
  circle w0.6: c-3.425,8.25 r0.3
  lines w0.152: -4.425,-9.25 -4.425,9.25 4.425,9.25 4.425,-9.25 -4.425,-9.25

## TSSOP5X4-16N(PW) [mm]
pads (16):
  oval 2x0.35 smd: 1(-2.7,2.275) 2(-2.7,1.625) 3(-2.7,0.975) 4(-2.7,0.325) 5(-2.7,-0.325) 6(-2.7,-0.975) 7(-2.7,-1.625) 8(-2.7,-2.275) 9(2.7,-2.275) 10(2.7,-1.625) 11(2.7,-0.975) 12(2.7,-0.325) 13(2.7,0.325) 14(2.7,0.975) 15(2.7,1.625) 16(2.7,2.275)
TopOverlay:
  circle w0.25: c-2.7,3 r0.125
  circle w0.6: c-0.3,1.55 r0.3
  lines w0.2: -1.3,-2.55 1.3,-2.55 1.3,2.55 -1.3,2.55 -1.3,-2.55

## ULOGO [mm]
TopOverlay:
  rectangle: 1.122,1.435 1.434,1.803
  rectangle: 1.021,1.27 1.27,1.803
  rectangle: 0.915,1.122 1.122,1.803
  rectangle: 0.662,1.021 1.021,1.803
  rectangle: 0.662,0.915 0.915,1.803
  rectangle: 0.347,0.803 0.803,1.676
  rectangle: 0.254,0.662 0.662,1.803
  rectangle: 0,0.494 0.494,2.489
  rectangle: 0,0.347 0.347,1.676
  rectangle: 0,0.279 0.254,1.803
  rectangle: 0.254,0.279 0.347,0.347
  rectangle: 1.258,4.013 1.6,4.42
  rectangle: 0.737,4.242 1.13,4.87
  rectangle: 1.258,4.013 1.448,4.572
  rectangle: 0.556,4.013 1.258,4.742
  rectangle: 0.381,3.785 1.067,4.978
  rectangle: 0.381,4.013 0.878,5.122
  rectangle: 0.254,4.242 0.737,5.283
  rectangle: 0.381,4.013 0.556,5.444
  rectangle: 0,4.013 0.381,5.74
  rectangle: 3.683,1.549 3.962,1.753
  rectangle: 3.824,1.389 4.012,2.007
  rectangle: 3.886,1.372 4.14,2.007
  rectangle: 4.012,1.2 4.14,2.007
  rectangle: 4.14,1.067 4.413,2.007
  rectangle: 4.287,0.925 4.528,2.007
  rectangle: 4.413,0.8 4.528,2.007
  rectangle: 4.528,0.685 4.818,2.007
  rectangle: 4.661,0.551 4.978,2.083
  rectangle: 4.818,0.395 5.207,2.007
  rectangle: 4.978,0.254 5.207,2.083
  rectangle: 4.877,5.283 5.207,5.715
  rectangle: 4.674,5.105 5.207,5.512
  rectangle: 3.531,3.861 3.886,4.394
  rectangle: 3.749,3.861 3.886,4.547
  rectangle: 3.886,3.861 4.47,4.75
  rectangle: 4.115,4.089 4.517,4.953
  rectangle: 4.293,3.962 4.978,5.156
  rectangle: 4.517,4.089 5.207,5.316
  rectangle: 3.429,1.676 5.207,4.228
  rectangle: 0,1.6 1.778,4.222
  lines w0.254: 1.524,0.895 1.143,0.514 0.635,0.006 ; 0.635,0.006 2.032,1.403 3.238,1.403 4.635,0.006 0.635,0.006 ; 0,0 0,6 1.778,4.222 1.778,1.778 0,0 ; 3.429,1.784 3.429,4.228 5.207,6.006 5.207,0.006 3.429,1.784

## ULOGO-R [mm]
TopOverlay:
  circle w0.152: c6.909,6.147 r0.864
  rectangle: 0,1.6 1.778,4.222
  rectangle: 3.429,1.676 5.207,4.228
  rectangle: 4.517,4.089 5.207,5.316
  rectangle: 4.293,3.962 4.978,5.156
  rectangle: 4.115,4.089 4.517,4.953
  rectangle: 3.886,3.861 4.47,4.75
  rectangle: 3.749,3.861 3.886,4.547
  rectangle: 3.531,3.861 3.886,4.394
  rectangle: 4.674,5.105 5.207,5.512
  rectangle: 4.877,5.283 5.207,5.715
  rectangle: 4.978,0.254 5.207,2.083
  rectangle: 4.818,0.395 5.207,2.007
  rectangle: 4.661,0.551 4.978,2.083
  rectangle: 4.528,0.685 4.818,2.007
  rectangle: 4.413,0.8 4.528,2.007
  rectangle: 4.287,0.925 4.528,2.007
  rectangle: 4.14,1.067 4.413,2.007
  rectangle: 4.012,1.2 4.14,2.007
  rectangle: 3.886,1.372 4.14,2.007
  rectangle: 3.824,1.389 4.012,2.007
  rectangle: 3.683,1.549 3.962,1.753
  rectangle: 0,4.013 0.381,5.74
  rectangle: 0.381,4.013 0.556,5.444
  rectangle: 0.254,4.242 0.737,5.283
  rectangle: 0.381,4.013 0.878,5.122
  rectangle: 0.381,3.785 1.067,4.978
  rectangle: 0.556,4.013 1.258,4.742
  rectangle: 1.258,4.013 1.448,4.572
  rectangle: 0.737,4.242 1.13,4.87
  rectangle: 1.258,4.013 1.6,4.42
  rectangle: 0.254,0.279 0.347,0.347
  rectangle: 0,0.279 0.254,1.803
  rectangle: 0,0.347 0.347,1.676
  rectangle: 0,0.494 0.494,2.489
  rectangle: 0.254,0.662 0.662,1.803
  rectangle: 0.347,0.803 0.803,1.676
  rectangle: 0.662,0.915 0.915,1.803
  rectangle: 0.662,1.021 1.021,1.803
  rectangle: 0.915,1.122 1.122,1.803
  rectangle: 1.021,1.27 1.27,1.803
  rectangle: 1.122,1.435 1.434,1.803
  lines w0.254: 1.524,0.895 1.143,0.514 0.635,0.006 ; 0.635,0.006 4.635,0.006 3.238,1.403 2.032,1.403 0.635,0.006 ; 0,0 1.778,1.778 1.778,4.222 0,6 0,0 ; 3.429,1.784 5.207,0.006 5.207,6.006 3.429,4.228 3.429,1.784
  text "R" at 6.629,5.664 h1.02

## ULOGO-RS [mm] "small ULOGO"
TopOverlay:
  circle w0.102: c4.039,3.429 r0.508
  region: 3.048,3.226 2.769,3.226 2.769,0.229 3.048,0.229
  region: 3.048,3.048 2.565,3.048 2.565,0.457 3.048,0.457
  region: 2.769,2.845 2.413,2.845 2.413,0.635 2.769,0.635
  region: 2.616,2.642 2.156,2.642 2.156,0.754 2.616,0.754
  rectangle: 0.432,0.787 0.892,2.675
  rectangle: 0.279,0.584 0.635,2.794
  rectangle: 0,0.381 0.483,2.972
  rectangle: 0,0.203 0.279,3.2
  lines w0.254: 0.892,2.537 0,3.429 0,0 0.892,0.892 0.892,2.54 ; 1.016,0.381 0.629,-0.006 2.482,-0.006 ; 1.828,0.659 2.487,0 ; 1.828,0.664 1.299,0.664 ; 1.299,0.664 0.635,0 1.299,0.664 ; 2.156,2.537 3.048,3.429 ; 2.156,2.537 2.156,0.889 2.156,2.537 ; 2.156,2.537 3.048,3.429 ; 3.048,0 3.048,3.429 ; 3.048,0 2.156,0.892 3.048,0 ; 3.048,0 3.048,3.429
  text "R" at 3.886,3.175 h0.51